# EAGLE library part MP1591DN (library chip)
MP1591 – 2A, 32V, 330KHz STEP-DOWN CONVERTER
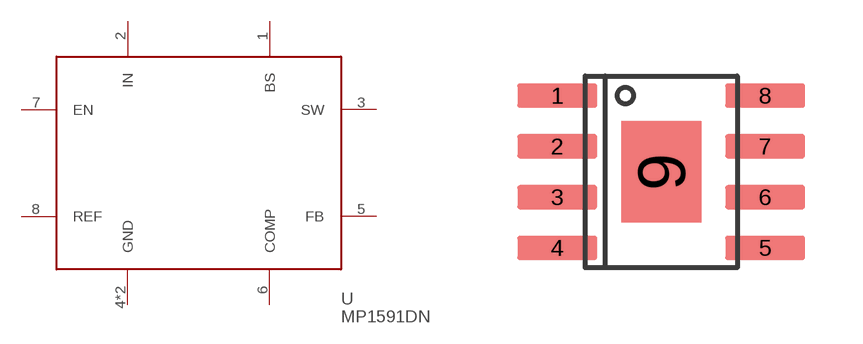
[diagram p3: symbol with the pads of SOIC8E; footprint SOIC8E]

Designator prefix U

## MP1591DN  [SOIC8E]
1  BS  pas
2  IN  pwr
3  SW  out
4  GND  pwr
5  FB  in
6  COMP  pas
7  EN  in
8  REF  pas
9  GND  pwr

## Footprint SOIC8E (pad centres in mm)
smd 2 x 0.6: 1 -2.6,2.54; 2 -2.6,1.27; 3 -2.6,0; 4 -2.6,-1.27; 5 2.6,-1.27; 6 2.6,0; 7 2.6,1.27; 8 2.6,2.54
smd 2 x 2.54: 9 0,0.635